# EAGLE library part PINHD-1X6 (library SaintGimp)
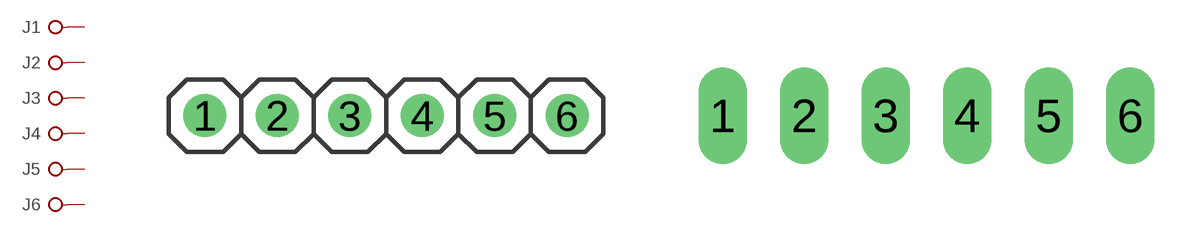
[diagram p4: symbol with the pads of 1X06; footprints 1X06, 1X06-BIG]

Designator prefix J; gates 1=TERMINAL 2=TERMINAL 3=TERMINAL 4=TERMINAL 5=TERMINAL 6=TERMINAL

## PINHD-1X6-PIN  [1X06]
1  1:KL  pas
2  2:KL  pas
3  3:KL  pas
4  4:KL  pas
5  5:KL  pas
6  6:KL  pas

## PINHD-1X6-BIG  [1X06-BIG]
Pads as for 1X06

## PINHD-1X6-JST-PH  [JST-B6B-PH]
Pads as for 1X06

## Footprint 1X06 (pad centres in mm)
drill 1: 1 -6.35,0; 2 -3.81,0; 3 -1.27,0; 4 1.27,0; 5 3.81,0; 6 6.35,0

## Footprint 1X06-BIG (pad centres in mm)
drill 1 long: 1 -6.35,0; 2 -3.81,0; 3 -1.27,0; 4 1.27,0; 5 3.81,0; 6 6.35,0

## Footprint JST-B6B-PH (pad centres in mm)
drill 0.8 long: 1 5,0; 2 3,0; 3 1,0; 4 -1,0; 5 -3,0; 6 -5,0